# EAGLE library part SST26VFXXX (library memories)
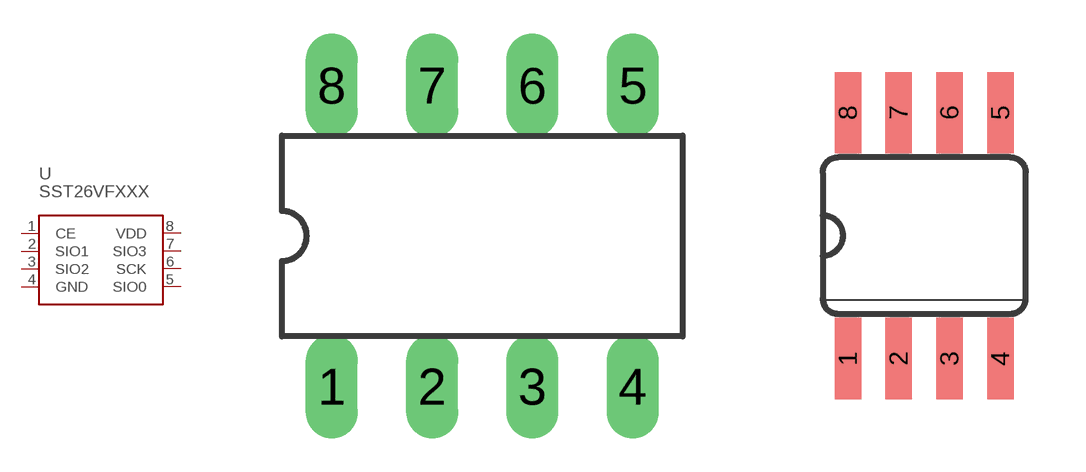
[diagram p1: symbol with the pads of DIL8; footprints DIL8, SOIC08]

Designator prefix U

## SST26VFXXXP  [DIL8]
1  CE
2  SIO1
3  SIO2
4  GND
5  SIO0
6  SCK
7  SIO3
8  VDD

## SST26VFXXXS  [SOIC08]
Pads as for DIL8

## SST26VFXXXW  [SOIC08W]
Pads as for DIL8

## Footprint DIL8 (pad centres in mm)
Dual In Line package type P
drill 0.813 long: 1 -3.81,-3.81; 2 -1.27,-3.81; 3 1.27,-3.81; 4 3.81,-3.81; 5 3.81,3.81; 6 1.27,3.81; 7 -1.27,3.81; 8 -3.81,3.81

## Footprint SOIC08 (pad centres in mm)
Small Outline Package
smd 0.66 x 2.032: 1 -1.905,-3.073; 2 -0.635,-3.073; 3 0.635,-3.073; 4 1.905,-3.073; 5 1.905,3.073; 6 0.635,3.073; 7 -0.635,3.073; 8 -1.905,3.073

## Footprint SOIC08W (pad centres in mm)
Small Outline Package SOIC 150 mil
smd 0.66 x 2.032: 1 -1.905,-4.343; 2 -0.635,-4.343; 3 0.635,-4.343; 4 1.905,-4.343; 5 1.905,4.343; 6 0.635,4.343; 7 -0.635,4.343; 8 -1.905,4.343